# Altium schematic symbol library WA-SMST.SchLib: 108 symbols (part 2 of 2)
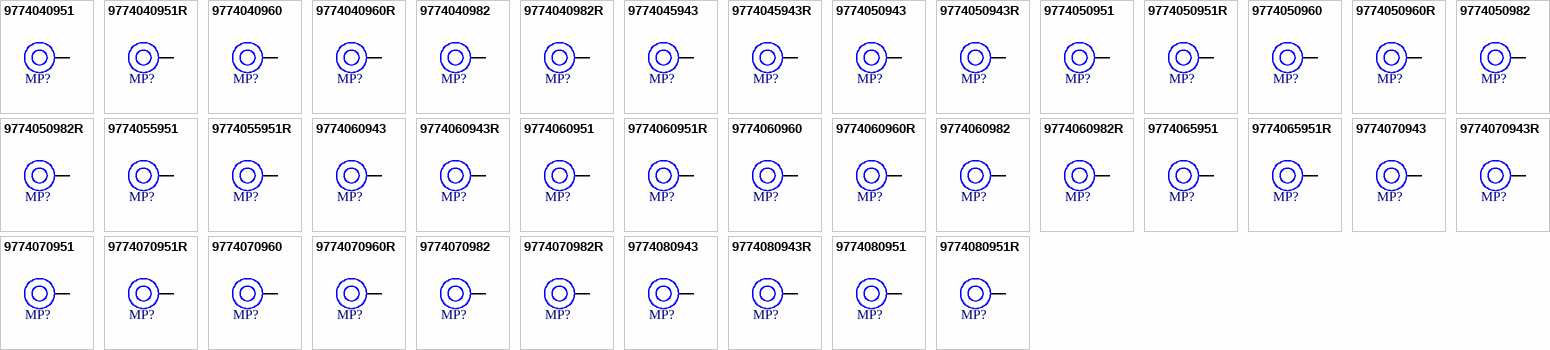
[diagram p3: symbols 9774040951 to 9774080951R]

## 9774070943R
designator MP?, comment hole 2.25mm x 7mm  (value not drawn)
WA-SMST SMT Steel Spacer, OD 4.35mm, hole 2.25mm x 7mm; Manufacturer Part Number: 9774070943R; Manufacturer: Wurth Elektronik; Surface: Tin; ComponentLink1Description: Website Link; ComponentLink1URL: https://www.we-online.com/redexpert/article/9774070943R?ad; ComponentLink2Description: Datasheet Link; ComponentLink2URL: https://www.we-online.com/redexpert/spec/9774070943R?ad; Category: SMT Spacers; Match Code: WA-SMST; Mount: Surface Mount; Operating Temperature Max: 150°C; Operating Temperature Min: -55°C; Packaging: Tape and Reel; Height: 7mm; Inside Diameter: 2.25mm; Material: Steel; Outside Diameter: 4.35mm
footprint 9774070943
pins: 1

## 9774070951
designator MP?, comment hole 2.7mm x 7mm  (value not drawn)
WA-SMST SMT Steel Spacer, OD 5.1mm, hole 2.7mm x 7mm; Manufacturer Part Number: 9774070951; Manufacturer: Wurth Elektronik; Surface: Tin; ComponentLink1Description: Website Link; ComponentLink1URL: https://www.we-online.com/redexpert/article/9774070951?ad; ComponentLink2Description: Datasheet Link; ComponentLink2URL: https://www.we-online.com/redexpert/spec/9774070951?ad; Category: SMT Spacers; Match Code: WA-SMST; Mount: Surface Mount; Operating Temperature Max: 150°C; Operating Temperature Min: -55°C; Packaging: Bulk; Height: 7mm; Inside Diameter: 2.7mm; Material: Steel; Outside Diameter: 5.1mm
footprint 9774070951
pins: 1

## 9774070951R
designator MP?, comment hole 2.7mm x 7mm  (value not drawn)
WA-SMST SMT Steel Spacer, OD 5.1mm, hole 2.7mm x 7mm; Manufacturer Part Number: 9774070951R; Manufacturer: Wurth Elektronik; Surface: Tin; ComponentLink1Description: Website Link; ComponentLink1URL: https://www.we-online.com/redexpert/article/9774070951R?ad; ComponentLink2Description: Datasheet Link; ComponentLink2URL: https://www.we-online.com/redexpert/spec/9774070951R?ad; Category: SMT Spacers; Match Code: WA-SMST; Mount: Surface Mount; Operating Temperature Max: 150°C; Operating Temperature Min: -55°C; Packaging: Tape and Reel; Height: 7mm; Inside Diameter: 2.7mm; Material: Steel; Outside Diameter: 5.1mm
footprint 9774070951
pins: 1

## 9774070960
designator MP?, comment hole 3.3mm x 7mm  (value not drawn)
WA-SMST SMT Steel Spacer, OD 6mm, hole 3.3mm x 7mm; Manufacturer Part Number: 9774070960; Manufacturer: Wurth Elektronik; Surface: Tin; ComponentLink1Description: Website Link; ComponentLink1URL: https://www.we-online.com/redexpert/article/9774070960?ad; ComponentLink2Description: Datasheet Link; ComponentLink2URL: https://www.we-online.com/redexpert/spec/9774070960?ad; Category: SMT Spacers; Match Code: WA-SMST; Mount: Surface Mount; Operating Temperature Max: 150°C; Operating Temperature Min: -55°C; Packaging: Bulk; Height: 7mm; Inside Diameter: 3.3mm; Material: Steel; Outside Diameter: 6mm
footprint 9774070960
pins: 1

## 9774070960R
designator MP?, comment hole 3.3mm x 7mm  (value not drawn)
WA-SMST SMT Steel Spacer, OD 6mm, hole 3.3mm x 7mm; Manufacturer Part Number: 9774070960R; Manufacturer: Wurth Elektronik; Surface: Tin; ComponentLink1Description: Website Link; ComponentLink1URL: https://www.we-online.com/redexpert/article/9774070960R?ad; ComponentLink2Description: Datasheet Link; ComponentLink2URL: https://www.we-online.com/redexpert/spec/9774070960R?ad; Category: SMT Spacers; Match Code: WA-SMST; Mount: Surface Mount; Operating Temperature Max: 150°C; Operating Temperature Min: -55°C; Packaging: Tape and Reel; Height: 7mm; Inside Diameter: 3.3mm; Material: Steel; Outside Diameter: 6mm
footprint 9774070960
pins: 1

## 9774070982
designator MP?, comment hole 4.5mm x 7mm  (value not drawn)
WA-SMST SMT Steel Spacer, OD 8.2mm, hole 4.5mm x 7mm; Manufacturer Part Number: 9774070982; Manufacturer: Wurth Elektronik; Surface: Tin; ComponentLink1Description: Website Link; ComponentLink1URL: https://www.we-online.com/redexpert/article/9774070982?ad; ComponentLink2Description: Datasheet Link; ComponentLink2URL: https://www.we-online.com/redexpert/spec/9774070982?ad; Category: SMT Spacers; Match Code: WA-SMST; Mount: Surface Mount; Operating Temperature Max: 150°C; Operating Temperature Min: -55°C; Packaging: Bulk; Height: 7mm; Inside Diameter: 4.5mm; Material: Steel; Outside Diameter: 8.2mm
footprint 9774070982
pins: 1

## 9774070982R
designator MP?, comment hole 4.5mm x 7mm  (value not drawn)
WA-SMST SMT Steel Spacer, OD 8.2mm, hole 4.5mm x 7mm; Manufacturer Part Number: 9774070982R; Manufacturer: Wurth Elektronik; Surface: Tin; ComponentLink1Description: Website Link; ComponentLink1URL: https://www.we-online.com/redexpert/article/9774070982R?ad; ComponentLink2Description: Datasheet Link; ComponentLink2URL: https://www.we-online.com/redexpert/spec/9774070982R?ad; Category: SMT Spacers; Match Code: WA-SMST; Mount: Surface Mount; Operating Temperature Max: 150°C; Operating Temperature Min: -55°C; Packaging: Tape and Reel; Height: 7mm; Inside Diameter: 4.5mm; Material: Steel; Outside Diameter: 8.2mm
footprint 9774070982
pins: 1

## 9774080943
designator MP?, comment hole 2.25mm x 8mm  (value not drawn)
WA-SMST SMT Steel Spacer, OD 4.35mm, hole 2.25mm x 8mm; Manufacturer Part Number: 9774080943; Manufacturer: Wurth Elektronik; Surface: Tin; ComponentLink1Description: Website Link; ComponentLink1URL: https://www.we-online.com/redexpert/article/9774080943?ad; ComponentLink2Description: Datasheet Link; ComponentLink2URL: https://www.we-online.com/redexpert/spec/9774080943?ad; Category: SMT Spacers; Match Code: WA-SMST; Mount: Surface Mount; Operating Temperature Max: 150°C; Operating Temperature Min: -55°C; Packaging: Bulk; Height: 8mm; Inside Diameter: 2.25mm; Material: Steel; Outside Diameter: 4.35mm
footprint 9774080943
pins: 1

## 9774080943R
designator MP?, comment hole 2.25mm x 8mm  (value not drawn)
WA-SMST SMT Steel Spacer, OD 4.35mm, hole 2.25mm x 8mm; Manufacturer Part Number: 9774080943R; Manufacturer: Wurth Elektronik; Surface: Tin; ComponentLink1Description: Website Link; ComponentLink1URL: https://www.we-online.com/redexpert/article/9774080943R?ad; ComponentLink2Description: Datasheet Link; ComponentLink2URL: https://www.we-online.com/redexpert/spec/9774080943R?ad; Category: SMT Spacers; Match Code: WA-SMST; Mount: Surface Mount; Operating Temperature Max: 150°C; Operating Temperature Min: -55°C; Packaging: Tape and Reel; Height: 8mm; Inside Diameter: 2.25mm; Material: Steel; Outside Diameter: 4.35mm
footprint 9774080943
pins: 1

## 9774080951
designator MP?, comment hole 2.7mm x 8mm  (value not drawn)
WA-SMST SMT Steel Spacer, OD 5.1mm, hole 2.7mm x 8mm; Manufacturer Part Number: 9774080951; Manufacturer: Wurth Elektronik; Surface: Tin; ComponentLink1Description: Website Link; ComponentLink1URL: https://www.we-online.com/redexpert/article/9774080951?ad; ComponentLink2Description: Datasheet Link; ComponentLink2URL: https://www.we-online.com/redexpert/spec/9774080951?ad; Category: SMT Spacers; Match Code: WA-SMST; Mount: Surface Mount; Operating Temperature Max: 150°C; Operating Temperature Min: -55°C; Packaging: Bulk; Height: 8mm; Inside Diameter: 2.7mm; Material: Steel; Outside Diameter: 5.1mm
footprint 9774080951
pins: 1

## 9774080951R
designator MP?, comment hole 2.7mm x 8mm  (value not drawn)
WA-SMST SMT Steel Spacer, OD 5.1mm, hole 2.7mm x 8mm; Manufacturer Part Number: 9774080951R; Manufacturer: Wurth Elektronik; Surface: Tin; ComponentLink1Description: Website Link; ComponentLink1URL: https://www.we-online.com/redexpert/article/9774080951R?ad; ComponentLink2Description: Datasheet Link; ComponentLink2URL: https://www.we-online.com/redexpert/spec/9774080951R?ad; Category: SMT Spacers; Match Code: WA-SMST; Mount: Surface Mount; Operating Temperature Max: 150°C; Operating Temperature Min: -55°C; Packaging: Tape and Reel; Height: 8mm; Inside Diameter: 2.7mm; Material: Steel; Outside Diameter: 5.1mm
footprint 9774080951
pins: 1

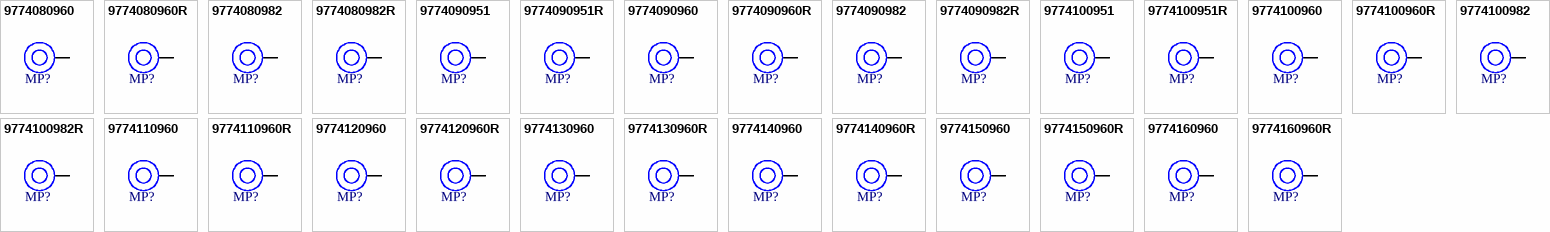
[diagram p2: symbols 9774080960 to 9774160960R]

## 9774080960
designator MP?, comment hole 3.3mm x 8mm  (value not drawn)
WA-SMST SMT Steel Spacer, OD 6mm, hole 3.3mm x 8mm; Manufacturer Part Number: 9774080960; Manufacturer: Wurth Elektronik; Surface: Tin; ComponentLink1Description: Website Link; ComponentLink1URL: https://www.we-online.com/redexpert/article/9774080960?ad; ComponentLink2Description: Datasheet Link; ComponentLink2URL: https://www.we-online.com/redexpert/spec/9774080960?ad; Category: SMT Spacers; Match Code: WA-SMST; Mount: Surface Mount; Operating Temperature Max: 150°C; Operating Temperature Min: -55°C; Packaging: Bulk; Height: 8mm; Inside Diameter: 3.3mm; Material: Steel; Outside Diameter: 6mm
footprint 9774080960
pins: 1

## 9774080960R
designator MP?, comment hole 3.3mm x 8mm  (value not drawn)
WA-SMST SMT Steel Spacer, OD 6mm, hole 3.3mm x 8mm; Manufacturer Part Number: 9774080960R; Manufacturer: Wurth Elektronik; Surface: Tin; ComponentLink1Description: Website Link; ComponentLink1URL: https://www.we-online.com/redexpert/article/9774080960R?ad; ComponentLink2Description: Datasheet Link; ComponentLink2URL: https://www.we-online.com/redexpert/spec/9774080960R?ad; Category: SMT Spacers; Match Code: WA-SMST; Mount: Surface Mount; Operating Temperature Max: 150°C; Operating Temperature Min: -55°C; Packaging: Tape and Reel; Height: 8mm; Inside Diameter: 3.3mm; Material: Steel; Outside Diameter: 6mm
footprint 9774080960
pins: 1

## 9774080982
designator MP?, comment hole 4.5mm x 8mm  (value not drawn)
WA-SMST SMT Steel Spacer, OD 8.2mm, hole 4.5mm x 8mm; Manufacturer Part Number: 9774080982; Manufacturer: Wurth Elektronik; Surface: Tin; ComponentLink1Description: Website Link; ComponentLink1URL: https://www.we-online.com/redexpert/article/9774080982?ad; ComponentLink2Description: Datasheet Link; ComponentLink2URL: https://www.we-online.com/redexpert/spec/9774080982?ad; Category: SMT Spacers; Match Code: WA-SMST; Mount: Surface Mount; Operating Temperature Max: 150°C; Operating Temperature Min: -55°C; Packaging: Bulk; Height: 8mm; Inside Diameter: 4.5mm; Material: Steel; Outside Diameter: 8.2mm
footprint 9774080982
pins: 1

## 9774080982R
designator MP?, comment hole 4.5mm x 8mm  (value not drawn)
WA-SMST SMT Steel Spacer, OD 8.2mm, hole 4.5mm x 8mm; Manufacturer Part Number: 9774080982R; Manufacturer: Wurth Elektronik; Surface: Tin; ComponentLink1Description: Website Link; ComponentLink1URL: https://www.we-online.com/redexpert/article/9774080982R?ad; ComponentLink2Description: Datasheet Link; ComponentLink2URL: https://www.we-online.com/redexpert/spec/9774080982R?ad; Category: SMT Spacers; Match Code: WA-SMST; Mount: Surface Mount; Operating Temperature Max: 150°C; Operating Temperature Min: -55°C; Packaging: Tape and Reel; Height: 8mm; Inside Diameter: 4.5mm; Material: Steel; Outside Diameter: 8.2mm
footprint 9774080982
pins: 1

## 9774090951
designator MP?, comment hole 2.7mm x 9mm  (value not drawn)
WA-SMST SMT Steel Spacer, OD 5.1mm, hole 2.7mm x 9mm; Manufacturer Part Number: 9774090951; Manufacturer: Wurth Elektronik; Surface: Tin; ComponentLink1Description: Website Link; ComponentLink1URL: https://www.we-online.com/redexpert/article/9774090951?ad; ComponentLink2Description: Datasheet Link; ComponentLink2URL: https://www.we-online.com/redexpert/spec/9774090951?ad; Category: SMT Spacers; Match Code: WA-SMST; Mount: Surface Mount; Operating Temperature Max: 150°C; Operating Temperature Min: -55°C; Packaging: Bulk; Height: 9mm; Inside Diameter: 2.7mm; Material: Steel; Outside Diameter: 5.1mm
footprint 9774090951
pins: 1

## 9774090951R
designator MP?, comment hole 2.7mm x 9mm  (value not drawn)
WA-SMST SMT Steel Spacer, OD 5.1mm, hole 2.7mm x 9mm; Manufacturer Part Number: 9774090951R; Manufacturer: Wurth Elektronik; Surface: Tin; ComponentLink1Description: Website Link; ComponentLink1URL: https://www.we-online.com/redexpert/article/9774090951R?ad; ComponentLink2Description: Datasheet Link; ComponentLink2URL: https://www.we-online.com/redexpert/spec/9774090951R?ad; Category: SMT Spacers; Match Code: WA-SMST; Mount: Surface Mount; Operating Temperature Max: 150°C; Operating Temperature Min: -55°C; Packaging: Tape and Reel; Height: 9mm; Inside Diameter: 2.7mm; Material: Steel; Outside Diameter: 5.1mm
footprint 9774090951
pins: 1

## 9774090960
designator MP?, comment hole 3.3mm x 9mm  (value not drawn)
WA-SMST SMT Steel Spacer, OD 6mm, hole 3.3mm x 9mm; Manufacturer Part Number: 9774090960; Manufacturer: Wurth Elektronik; Surface: Tin; ComponentLink1Description: Website Link; ComponentLink1URL: https://www.we-online.com/redexpert/article/9774090960?ad; ComponentLink2Description: Datasheet Link; ComponentLink2URL: https://www.we-online.com/redexpert/spec/9774090960?ad; Category: SMT Spacers; Match Code: WA-SMST; Mount: Surface Mount; Operating Temperature Max: 150°C; Operating Temperature Min: -55°C; Packaging: Bulk; Height: 9mm; Inside Diameter: 3.3mm; Material: Steel; Outside Diameter: 6mm
footprint 9774090960
pins: 1

## 9774090960R
designator MP?, comment hole 3.3mm x 9mm  (value not drawn)
WA-SMST SMT Steel Spacer, OD 6mm, hole 3.3mm x 9mm; Manufacturer Part Number: 9774090960R; Manufacturer: Wurth Elektronik; Surface: Tin; ComponentLink1Description: Website Link; ComponentLink1URL: https://www.we-online.com/redexpert/article/9774090960R?ad; ComponentLink2Description: Datasheet Link; ComponentLink2URL: https://www.we-online.com/redexpert/spec/9774090960R?ad; Category: SMT Spacers; Match Code: WA-SMST; Mount: Surface Mount; Operating Temperature Max: 150°C; Operating Temperature Min: -55°C; Packaging: Tape and Reel; Height: 9mm; Inside Diameter: 3.3mm; Material: Steel; Outside Diameter: 6mm
footprint 9774090960
pins: 1

## 9774090982
designator MP?, comment hole 4.5mm x 9mm  (value not drawn)
WA-SMST SMT Steel Spacer, OD 8.2mm, hole 4.5mm x 9mm; Manufacturer Part Number: 9774090982; Manufacturer: Wurth Elektronik; Surface: Tin; ComponentLink1Description: Website Link; ComponentLink1URL: https://www.we-online.com/redexpert/article/9774090982?ad; ComponentLink2Description: Datasheet Link; ComponentLink2URL: https://www.we-online.com/redexpert/spec/9774090982?ad; Category: SMT Spacers; Match Code: WA-SMST; Mount: Surface Mount; Operating Temperature Max: 150°C; Operating Temperature Min: -55°C; Packaging: Bulk; Height: 9mm; Inside Diameter: 4.5mm; Material: Steel; Outside Diameter: 8.2mm
footprint 9774090982
pins: 1

## 9774090982R
designator MP?, comment hole 4.5mm x 9mm  (value not drawn)
WA-SMST SMT Steel Spacer, OD 8.2mm, hole 4.5mm x 9mm; Manufacturer Part Number: 9774090982R; Manufacturer: Wurth Elektronik; Surface: Tin; ComponentLink1Description: Website Link; ComponentLink1URL: https://www.we-online.com/redexpert/article/9774090982R?ad; ComponentLink2Description: Datasheet Link; ComponentLink2URL: https://www.we-online.com/redexpert/spec/9774090982R?ad; Category: SMT Spacers; Match Code: WA-SMST; Mount: Surface Mount; Operating Temperature Max: 150°C; Operating Temperature Min: -55°C; Packaging: Tape and Reel; Height: 9mm; Inside Diameter: 4.5mm; Material: Steel; Outside Diameter: 8.2mm
footprint 9774090982
pins: 1

## 9774100951
designator MP?, comment hole 2.7mm x 10mm  (value not drawn)
WA-SMST SMT Steel Spacer, OD 5.1mm, hole 2.7mm x 10mm; Manufacturer Part Number: 9774100951; Manufacturer: Wurth Elektronik; Surface: Tin; ComponentLink1Description: Website Link; ComponentLink1URL: https://www.we-online.com/redexpert/article/9774100951?ad; ComponentLink2Description: Datasheet Link; ComponentLink2URL: https://www.we-online.com/redexpert/spec/9774100951?ad; Category: SMT Spacers; Match Code: WA-SMST; Mount: Surface Mount; Operating Temperature Max: 150°C; Operating Temperature Min: -55°C; Packaging: Bulk; Height: 10mm; Inside Diameter: 2.7mm; Material: Steel; Outside Diameter: 5.1mm
footprint 9774100951
pins: 1

## 9774100951R
designator MP?, comment hole 2.7mm x 10mm  (value not drawn)
WA-SMST SMT Steel Spacer, OD 5.1mm, hole 2.7mm x 10mm; Manufacturer Part Number: 9774100951R; Manufacturer: Wurth Elektronik; Surface: Tin; ComponentLink1Description: Website Link; ComponentLink1URL: https://www.we-online.com/redexpert/article/9774100951R?ad; ComponentLink2Description: Datasheet Link; ComponentLink2URL: https://www.we-online.com/redexpert/spec/9774100951R?ad; Category: SMT Spacers; Match Code: WA-SMST; Mount: Surface Mount; Operating Temperature Max: 150°C; Operating Temperature Min: -55°C; Packaging: Tape and Reel; Height: 10mm; Inside Diameter: 2.7mm; Material: Steel; Outside Diameter: 5.1mm
footprint 9774100951
pins: 1

## 9774100960
designator MP?, comment hole 3.3mm x 10mm  (value not drawn)
WA-SMST SMT Steel Spacer, OD 6mm, hole 3.3mm x 10mm; Manufacturer Part Number: 9774100960; Manufacturer: Wurth Elektronik; Surface: Tin; ComponentLink1Description: Website Link; ComponentLink1URL: https://www.we-online.com/redexpert/article/9774100960?ad; ComponentLink2Description: Datasheet Link; ComponentLink2URL: https://www.we-online.com/redexpert/spec/9774100960?ad; Category: SMT Spacers; Match Code: WA-SMST; Mount: Surface Mount; Operating Temperature Max: 150°C; Operating Temperature Min: -55°C; Packaging: Bulk; Height: 10mm; Inside Diameter: 3.3mm; Material: Steel; Outside Diameter: 6mm
footprint 9774100960
pins: 1

## 9774100960R
designator MP?, comment hole 3.3mm x 10mm  (value not drawn)
WA-SMST SMT Steel Spacer, OD 6mm, hole 3.3mm x 10mm; Manufacturer Part Number: 9774100960R; Manufacturer: Wurth Elektronik; Surface: Tin; ComponentLink1Description: Website Link; ComponentLink1URL: https://www.we-online.com/redexpert/article/9774100960R?ad; ComponentLink2Description: Datasheet Link; ComponentLink2URL: https://www.we-online.com/redexpert/spec/9774100960R?ad; Category: SMT Spacers; Match Code: WA-SMST; Mount: Surface Mount; Operating Temperature Max: 150°C; Operating Temperature Min: -55°C; Packaging: Tape and Reel; Height: 10mm; Inside Diameter: 3.3mm; Material: Steel; Outside Diameter: 6mm
footprint 9774100960
pins: 1

## 9774100982
designator MP?, comment hole 4.5mm x 10mm  (value not drawn)
WA-SMST SMT Steel Spacer, OD 8.2mm, hole 4.5mm x 10mm; Manufacturer Part Number: 9774100982; Manufacturer: Wurth Elektronik; Surface: Tin; ComponentLink1Description: Website Link; ComponentLink1URL: https://www.we-online.com/redexpert/article/9774100982?ad; ComponentLink2Description: Datasheet Link; ComponentLink2URL: https://www.we-online.com/redexpert/spec/9774100982?ad; Category: SMT Spacers; Match Code: WA-SMST; Mount: Surface Mount; Operating Temperature Max: 150°C; Operating Temperature Min: -55°C; Packaging: Bulk; Height: 10mm; Inside Diameter: 4.5mm; Material: Steel; Outside Diameter: 8.2mm
footprint 9774100982
pins: 1

## 9774100982R
designator MP?, comment hole 4.5mm x 10mm  (value not drawn)
WA-SMST SMT Steel Spacer, OD 8.2mm, hole 4.5mm x 10mm; Manufacturer Part Number: 9774100982R; Manufacturer: Wurth Elektronik; Surface: Tin; ComponentLink1Description: Website Link; ComponentLink1URL: https://www.we-online.com/redexpert/article/9774100982R?ad; ComponentLink2Description: Datasheet Link; ComponentLink2URL: https://www.we-online.com/redexpert/spec/9774100982R?ad; Category: SMT Spacers; Match Code: WA-SMST; Mount: Surface Mount; Operating Temperature Max: 150°C; Operating Temperature Min: -55°C; Packaging: Tape and Reel; Height: 10mm; Inside Diameter: 4.5mm; Material: Steel; Outside Diameter: 8.2mm
footprint 9774100982
pins: 1

## 9774110960
designator MP?, comment hole 3.3mm x 11mm  (value not drawn)
WA-SMST SMT Steel Spacer, OD 6mm, hole 3.3mm x 11mm; Manufacturer Part Number: 9774110960; Manufacturer: Wurth Elektronik; Surface: Tin; ComponentLink1Description: Website Link; ComponentLink1URL: https://www.we-online.com/redexpert/article/9774110960?ad; ComponentLink2Description: Datasheet Link; ComponentLink2URL: https://www.we-online.com/redexpert/spec/9774110960?ad; Category: SMT Spacers; Match Code: WA-SMST; Mount: Surface Mount; Operating Temperature Max: 150°C; Operating Temperature Min: -55°C; Packaging: Bulk; Height: 11mm; Inside Diameter: 3.3mm; Material: Steel; Outside Diameter: 6mm
footprint 9774110960
pins: 1

## 9774110960R
designator MP?, comment hole 3.3mm x 11mm  (value not drawn)
WA-SMST SMT Steel Spacer, OD 6mm, hole 3.3mm x 11mm; Manufacturer Part Number: 9774110960R; Manufacturer: Wurth Elektronik; Surface: Tin; ComponentLink1Description: Website Link; ComponentLink1URL: https://www.we-online.com/redexpert/article/9774110960R?ad; ComponentLink2Description: Datasheet Link; ComponentLink2URL: https://www.we-online.com/redexpert/spec/9774110960R?ad; Category: SMT Spacers; Match Code: WA-SMST; Mount: Surface Mount; Operating Temperature Max: 150°C; Operating Temperature Min: -55°C; Packaging: Tape and Reel; Height: 11mm; Inside Diameter: 3.3mm; Material: Steel; Outside Diameter: 6mm
footprint 9774110960
pins: 1

## 9774120960
designator MP?, comment hole 3.3mm x 12mm  (value not drawn)
WA-SMST SMT Steel Spacer, OD 6mm, hole 3.3mm x 12mm; Manufacturer Part Number: 9774120960; Manufacturer: Wurth Elektronik; Surface: Tin; ComponentLink1Description: Website Link; ComponentLink1URL: https://www.we-online.com/redexpert/article/9774120960?ad; ComponentLink2Description: Datasheet Link; ComponentLink2URL: https://www.we-online.com/redexpert/spec/9774120960?ad; Category: SMT Spacers; Match Code: WA-SMST; Mount: Surface Mount; Operating Temperature Max: 150°C; Operating Temperature Min: -55°C; Packaging: Bulk; Height: 12mm; Inside Diameter: 3.3mm; Material: Steel; Outside Diameter: 6mm
footprint 9774120960
pins: 1

## 9774120960R
designator MP?, comment hole 3.3mm x 12mm  (value not drawn)
WA-SMST SMT Steel Spacer, OD 6mm, hole 3.3mm x 12mm; Manufacturer Part Number: 9774120960R; Manufacturer: Wurth Elektronik; Surface: Tin; ComponentLink1Description: Website Link; ComponentLink1URL: https://www.we-online.com/redexpert/article/9774120960R?ad; ComponentLink2Description: Datasheet Link; ComponentLink2URL: https://www.we-online.com/redexpert/spec/9774120960R?ad; Category: SMT Spacers; Match Code: WA-SMST; Mount: Surface Mount; Operating Temperature Max: 150°C; Operating Temperature Min: -55°C; Packaging: Tape and Reel; Height: 12mm; Inside Diameter: 3.3mm; Material: Steel; Outside Diameter: 6mm
footprint 9774120960
pins: 1

## 9774130960
designator MP?, comment hole 3.3mm x 13mm  (value not drawn)
WA-SMST SMT Steel Spacer, OD 6mm, hole 3.3mm x 13mm; Manufacturer Part Number: 9774130960; Manufacturer: Wurth Elektronik; Surface: Tin; ComponentLink1Description: Website Link; ComponentLink1URL: https://www.we-online.com/redexpert/article/9774130960?ad; ComponentLink2Description: Datasheet Link; ComponentLink2URL: https://www.we-online.com/redexpert/spec/9774130960?ad; Category: SMT Spacers; Match Code: WA-SMST; Mount: Surface Mount; Operating Temperature Max: 150°C; Operating Temperature Min: -55°C; Packaging: Bulk; Height: 13mm; Inside Diameter: 3.3mm; Material: Steel; Outside Diameter: 6mm
footprint 9774130960
pins: 1

## 9774130960R
designator MP?, comment hole 3.3mm x 13mm  (value not drawn)
WA-SMST SMT Steel Spacer, OD 6mm, hole 3.3mm x 13mm; Manufacturer Part Number: 9774130960R; Manufacturer: Wurth Elektronik; Surface: Tin; ComponentLink1Description: Website Link; ComponentLink1URL: https://www.we-online.com/redexpert/article/9774130960R?ad; ComponentLink2Description: Datasheet Link; ComponentLink2URL: https://www.we-online.com/redexpert/spec/9774130960R?ad; Category: SMT Spacers; Match Code: WA-SMST; Mount: Surface Mount; Operating Temperature Max: 150°C; Operating Temperature Min: -55°C; Packaging: Tape and Reel; Height: 13mm; Inside Diameter: 3.3mm; Material: Steel; Outside Diameter: 6mm
footprint 9774130960
pins: 1

## 9774140960
designator MP?, comment hole 3.3mm x 14mm  (value not drawn)
WA-SMST SMT Steel Spacer, OD 6mm, hole 3.3mm x 14mm; Manufacturer Part Number: 9774140960; Manufacturer: Wurth Elektronik; Surface: Tin; ComponentLink1Description: Website Link; ComponentLink1URL: https://www.we-online.com/redexpert/article/9774140960?ad; ComponentLink2Description: Datasheet Link; ComponentLink2URL: https://www.we-online.com/redexpert/spec/9774140960?ad; Category: SMT Spacers; Match Code: WA-SMST; Mount: Surface Mount; Operating Temperature Max: 150°C; Operating Temperature Min: -55°C; Packaging: Bulk; Height: 14mm; Inside Diameter: 3.3mm; Material: Steel; Outside Diameter: 6mm
footprint 9774140960
pins: 1

## 9774140960R
designator MP?, comment hole 3.3mm x 14mm  (value not drawn)
WA-SMST SMT Steel Spacer, OD 6mm, hole 3.3mm x 14mm; Manufacturer Part Number: 9774140960R; Manufacturer: Wurth Elektronik; Surface: Tin; ComponentLink1Description: Website Link; ComponentLink1URL: https://www.we-online.com/redexpert/article/9774140960R?ad; ComponentLink2Description: Datasheet Link; ComponentLink2URL: https://www.we-online.com/redexpert/spec/9774140960R?ad; Category: SMT Spacers; Match Code: WA-SMST; Mount: Surface Mount; Operating Temperature Max: 150°C; Operating Temperature Min: -55°C; Packaging: Tape and Reel; Height: 14mm; Inside Diameter: 3.3mm; Material: Steel; Outside Diameter: 6mm
footprint 9774140960
pins: 1

## 9774150960
designator MP?, comment hole 3.3mm x 15mm  (value not drawn)
WA-SMST SMT Steel Spacer, OD 6mm, hole 3.3mm x 15mm; Manufacturer Part Number: 9774150960; Manufacturer: Wurth Elektronik; Surface: Tin; ComponentLink1Description: Website Link; ComponentLink1URL: https://www.we-online.com/redexpert/article/9774150960?ad; ComponentLink2Description: Datasheet Link; ComponentLink2URL: https://www.we-online.com/redexpert/spec/9774150960?ad; Category: SMT Spacers; Match Code: WA-SMST; Mount: Surface Mount; Operating Temperature Max: 150°C; Operating Temperature Min: -55°C; Packaging: Bulk; Height: 15mm; Inside Diameter: 3.3mm; Material: Steel; Outside Diameter: 6mm
footprint 9774150960
pins: 1

## 9774150960R
designator MP?, comment hole 3.3mm x 15mm  (value not drawn)
WA-SMST SMT Steel Spacer, OD 6mm, hole 3.3mm x 15mm; Manufacturer Part Number: 9774150960R; Manufacturer: Wurth Elektronik; Surface: Tin; ComponentLink1Description: Website Link; ComponentLink1URL: https://www.we-online.com/redexpert/article/9774150960R?ad; ComponentLink2Description: Datasheet Link; ComponentLink2URL: https://www.we-online.com/redexpert/spec/9774150960R?ad; Category: SMT Spacers; Match Code: WA-SMST; Mount: Surface Mount; Operating Temperature Max: 150°C; Operating Temperature Min: -55°C; Packaging: Tape and Reel; Height: 15mm; Inside Diameter: 3.3mm; Material: Steel; Outside Diameter: 6mm
footprint 9774150960
pins: 1

## 9774160960
designator MP?, comment hole 3.3mm x 16mm  (value not drawn)
WA-SMST SMT Steel Spacer, OD 6mm, hole 3.3mm x 16mm; Manufacturer Part Number: 9774160960; Manufacturer: Wurth Elektronik; Surface: Tin; ComponentLink1Description: Website Link; ComponentLink1URL: https://www.we-online.com/redexpert/article/9774160960?ad; ComponentLink2Description: Datasheet Link; ComponentLink2URL: https://www.we-online.com/redexpert/spec/9774160960?ad; Category: SMT Spacers; Match Code: WA-SMST; Mount: Surface Mount; Operating Temperature Max: 150°C; Operating Temperature Min: -55°C; Packaging: Bulk; Height: 16mm; Inside Diameter: 3.3mm; Material: Steel; Outside Diameter: 6mm
footprint 9774160960
pins: 1

## 9774160960R
designator MP?, comment hole 3.3mm x 16mm  (value not drawn)
WA-SMST SMT Steel Spacer, OD 6mm, hole 3.3mm x 16mm; Manufacturer Part Number: 9774160960R; Manufacturer: Wurth Elektronik; Surface: Tin; ComponentLink1Description: Website Link; ComponentLink1URL: https://www.we-online.com/redexpert/article/9774160960R?ad; ComponentLink2Description: Datasheet Link; ComponentLink2URL: https://www.we-online.com/redexpert/spec/9774160960R?ad; Category: SMT Spacers; Match Code: WA-SMST; Mount: Surface Mount; Operating Temperature Max: 150°C; Operating Temperature Min: -55°C; Packaging: Tape and Reel; Height: 16mm; Inside Diameter: 3.3mm; Material: Steel; Outside Diameter: 6mm
footprint 9774160960
pins: 1